# Altium schematic symbol library 1212-SWLH.SchLib: 1 symbol
Pins are listed as number, name and electrical type; pins without a type are passive.

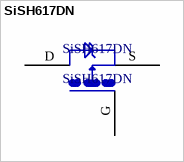
[diagram p0: symbol SiSH617DN]

## SiSH617DN
designator SiSH617DN
footprint SiSH617DN
pins: D 1, G 3, S 2